# Altium footprint library TPS563203DRLR.PcbLib: 3 footprints
Each footprint in its own frame and in the unit in brackets; x right, y up, seen from the top. Pads: shape width x height; smd on the part's side, far side on the other; paste and mask are expansions set on the pad; w line width, h text height; cw(c..) or ccw(c..) is an arc to the next point about the centre after c.
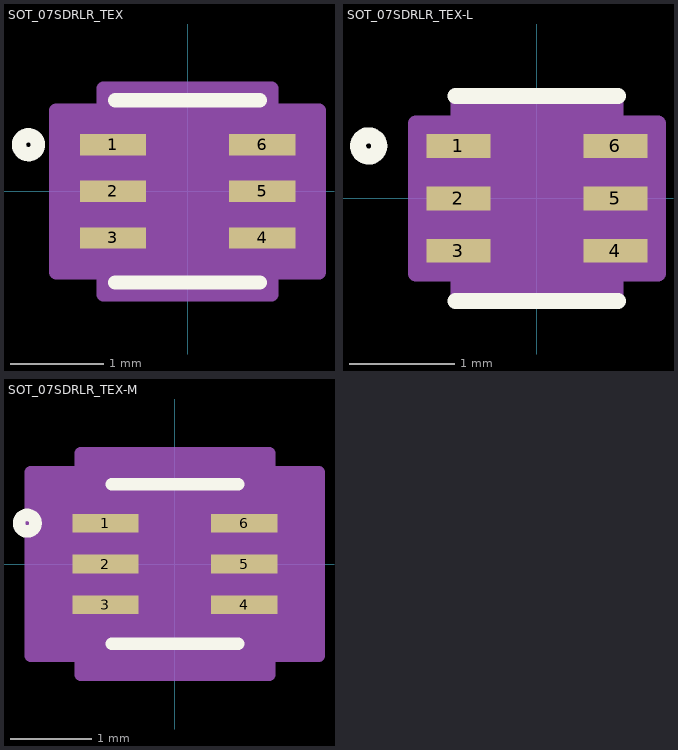
[diagram p0: the footprints below, top view; thin cyan lines are the x and y axes]

## SOT_07SDRLR_TEX [mil]
pads (6):
  rect 28x9 smd paste+0 mask+0: 1(-31.5,19.69) 2(-31.5,0) 3(-31.5,-19.69) 4(31.5,-19.69) 5(31.5,0) 6(31.5,19.69)
Top Overlay:
  circle w6: c-67.19,19.69 r4
  lines w6: -30.5,-38.5 30.5,-38.5 ; -30.5,38.5 30.5,38.5
Mechanical 13:
  circle w0: c-17.5,19.69 r3
  lines w0: -12,33.5 ccw(c0,33.5) 12,33.5
  lines w1: -25.5,-33.5 25.5,-33.5 25.5,33.5 -25.5,33.5 -25.5,-33.5
Mechanical 15:
  region: -35.5,-34.19 -55.5,-34.19 -55.5,34.19 -35.5,34.19 -35.5,43.5 35.5,43.5 35.5,34.19 55.5,34.19 55.5,-34.19 35.5,-34.19 35.5,-43.5 -35.5,-43.5
  lines w6: -55.5,-34.19 -55.5,34.19 -35.5,34.19 -35.5,43.5 35.5,43.5 35.5,34.19 55.5,34.19 55.5,-34.19 35.5,-34.19 35.5,-43.5 -35.5,-43.5 -35.5,-34.19 -55.5,-34.19
3D body "SOT_07SDRLR_TEX.step": height 24.09, standoff 0, extent -33.5,-33.5 33.5,33.5

## SOT_07SDRLR_TEX-L [mil]
pads (6):
  rect 24x9 smd paste+0 mask+0: 1(-29.5,19.69) 2(-29.5,0) 3(-29.5,-19.69) 4(29.5,-19.69) 5(29.5,0) 6(29.5,19.69)
Top Overlay:
  circle w6: c-63.19,19.69 r4
  lines w6: -30.5,-38.5 30.5,-38.5 ; -30.5,38.5 30.5,38.5
Mechanical 13:
  circle w0: c-17.5,19.69 r3
  lines w0: -12,33.5 ccw(c0,33.5) 12,33.5
  lines w1: -25.5,-33.5 25.5,-33.5 25.5,33.5 -25.5,33.5 -25.5,-33.5
Mechanical 15:
  region: -29.5,-28.19 -45.5,-28.19 -45.5,28.19 -29.5,28.19 -29.5,37.5 29.5,37.5 29.5,28.19 45.5,28.19 45.5,-28.19 29.5,-28.19 29.5,-37.5 -29.5,-37.5
  lines w6: -45.5,-28.19 -45.5,28.19 -29.5,28.19 -29.5,37.5 29.5,37.5 29.5,28.19 45.5,28.19 45.5,-28.19 29.5,-28.19 29.5,-37.5 -29.5,-37.5 -29.5,-28.19 -45.5,-28.19
3D body "SOT_07SDRLR_TEX.step": height 24.09, standoff 0, extent -33.5,-33.5 33.5,33.5

## SOT_07SDRLR_TEX-M [mil]
pads (6):
  rect 32x9 smd paste+0 mask+0: 1(-33.5,19.69) 2(-33.5,0) 3(-33.5,-19.69) 4(33.5,-19.69) 5(33.5,0) 6(33.5,19.69)
Top Overlay:
  circle w6: c-71.19,19.69 r4
  lines w6: -30.5,-38.5 30.5,-38.5 ; -30.5,38.5 30.5,38.5
Mechanical 13:
  circle w0: c-17.5,19.69 r3
  lines w0: -12,33.5 ccw(c0,33.5) 12,33.5
  lines w1: -25.5,-33.5 25.5,-33.5 25.5,33.5 -25.5,33.5 -25.5,-33.5
Mechanical 15:
  region: -45.5,-44.19 -69.5,-44.19 -69.5,44.19 -45.5,44.19 -45.5,53.5 45.5,53.5 45.5,44.19 69.5,44.19 69.5,-44.19 45.5,-44.19 45.5,-53.5 -45.5,-53.5
  lines w6: -69.5,-44.19 -69.5,44.19 -45.5,44.19 -45.5,53.5 45.5,53.5 45.5,44.19 69.5,44.19 69.5,-44.19 45.5,-44.19 45.5,-53.5 -45.5,-53.5 -45.5,-44.19 -69.5,-44.19
3D body "SOT_07SDRLR_TEX.step": height 24.09, standoff 0, extent -33.5,-33.5 33.5,33.5